# EAGLE library part ULN2803 (library custom-parts)
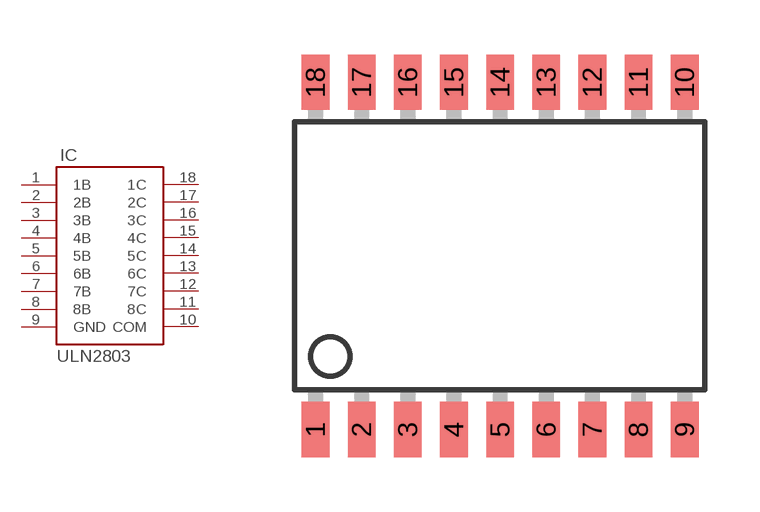
[diagram p0: symbol with the pads of SO18-1; footprint SO18-1]

Designator prefix IC

## ULN2803SO18-1  [SO18-1]
1  1B
2  2B
3  3B
4  4B
5  5B
6  6B
7  7B
8  8B
9  GND
10  COM
11  8C
12  7C
13  6C
14  5C
15  4C
16  3C
17  2C
18  1C

## Footprint SO18-1 (pad centres in mm)
Small Outline Package
smd 0.762 x 1.524: 1 -5.08,-4.775; 2 -3.81,-4.775; 3 -2.54,-4.775; 4 -1.27,-4.775; 5 0,-4.775; 6 1.27,-4.775; 7 2.54,-4.775; 8 3.81,-4.775; 9 5.08,-4.775; 10 5.08,4.775; 11 3.81,4.775; 12 2.54,4.775; 13 1.27,4.775; 14 0,4.775; 15 -1.27,4.775; 16 -2.54,4.775; 17 -3.81,4.775; 18 -5.08,4.775